# Altium schematic symbol library DEMO1_SCH_LIB.SchLib: 7 symbols
Pins are listed as number, name and electrical type; pins without a type are passive.

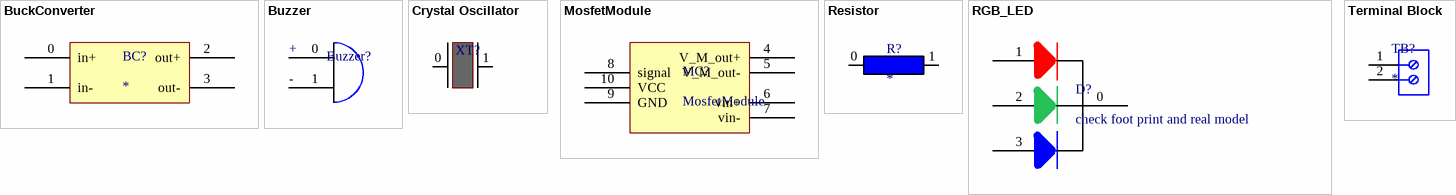
[diagram p0: symbols BuckConverter to Terminal Block]

## BuckConverter
designator BC?
footprint BUCK
pins: 0 in+, 1 in-, 2 out+, 3 out-

## Buzzer
designator Buzzer?
footprint Buzzer
pins: 0 15, 1 16
text: +; -

## Crystal Oscillator
designator XT?  (value not drawn)
footprint CrystalOscillator
pins: 0 17, 1 18

## MosfetModule
designator MC?
footprint MosfetMoterDriver
pins: 4 V_M_out+, 5 V_M_out-, 6 vin+, 7 vin-, 8 signal, 9 GND, 10 VCC

## Resistor
designator R?
footprint Resistor
pins: 0 20, 1 19

## RGB_LED
designator D?, comment check foot print and real model
footprint RGB_LED
pins: 0 14, 1 11, 2 12, 3 13

## Terminal Block
designator TB?
footprint Terminal Block (Female Header, Pitch 5mm, 1 x 2 Position, Height 10mm)
pins: 1, 2